# Altium footprint library Transistor-Fotprint.PcbLib: 28 footprints (part 1 of 2)
Each footprint in its own frame and in the unit in brackets; x right, y up, seen from the top. Pads: shape width x height; smd on the part's side, far side on the other; paste and mask are expansions set on the pad; w line width, h text height; cw(c..) or ccw(c..) is an arc to the next point about the centre after c.
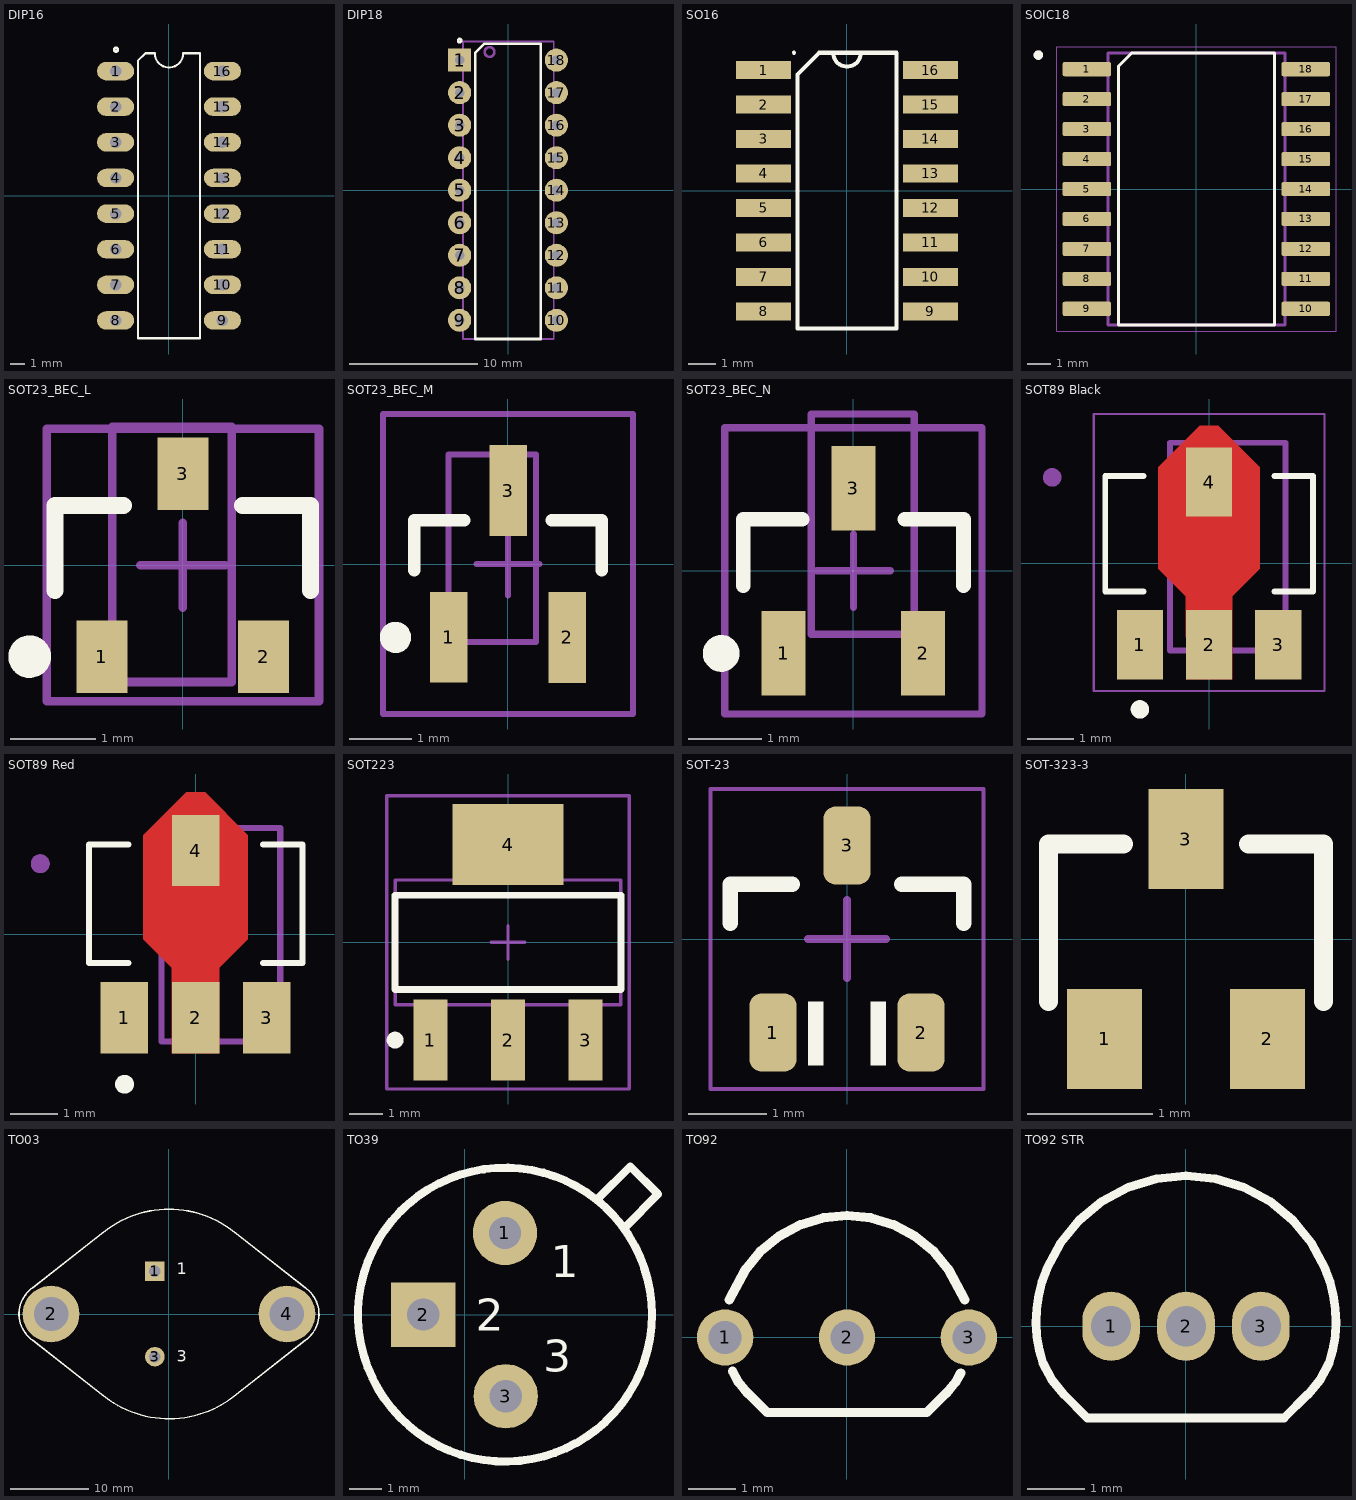
[diagram p0: the footprints below, top view; thin cyan lines are the x and y axes]

## DIP16 [mil]
pads (16):
  oval 104x52 hole 32: 1(-150,350) 2(-150,250) 3(-150,150) 4(-150,50) 5(-150,-50) 6(-150,-150) 7(-150,-250) 8(-150,-350) 9(150,-350) 10(150,-250) 11(150,-150) 12(150,-50) 13(150,50) 14(150,150) 15(150,250) 16(150,350)
Top Overlay:
  circle w7.87: c-148.66,410 r5
  lines w5.98: -87.5,-398.71 -87.5,378.58 -66.08,400 -40,400 ccw(c0,400) 40,400 87.5,400 ; -86.21,-400 87.5,-400 ; 87.5,-398.71 87.5,398.43
3D body "CircuitWorks-DIP16.step": height 165, standoff -101, extent -155,-425 155,425

## DIP18 [mm]
pads (18):
  rect 1.8x1.8 hole 0.72: 1(-3.776,10.16)
  round 1.8 hole 0.72: 2(-3.776,7.62) 3(-3.776,5.08) 4(-3.776,2.54) 5(-3.776,0) 6(-3.776,-2.54) 7(-3.776,-5.08) 8(-3.776,-7.62) 9(-3.776,-10.16) 10(3.776,-10.16) 11(3.776,-7.62) 12(3.776,-5.08) 13(3.776,-2.54) 14(3.776,0) 15(3.776,2.54) 16(3.776,5.08) 17(3.776,7.62) 18(3.776,10.16)
Top Overlay:
  circle w0.2: c-3.776,11.684 r0.127
  lines w0.2: 2.574,-11.62 -2.569,-11.62 -2.569,10.731 -1.871,11.43 2.574,11.43 2.574,-11.557
Mechanical 13:
  circle w0.2: c-1.441,10.795 r0.381
  lines w0.127: -3.516,-11.62 3.584,-11.62 3.584,11.62 -3.516,11.62 -3.516,-11.62
3D body "User Library-DIP-18P-M02.step": height 5.25, standoff -2.75, extent -3.901,-11 3.969,11

## SO16 [mil]
pads (16):
  rect 80x26 smd: 1(-121,175) 2(-121,125) 3(-121,75) 4(-121,25) 5(-121,-25) 6(-121,-75) 7(-121,-125) 8(-121,-175) 9(121,-175) 10(121,-125) 11(121,-75) 12(121,-25) 13(121,25) 14(121,75) 15(121,125) 16(121,175)
Top Overlay:
  lines w5.98: -72,-200 72,-200 ; -72,163.5 -72,168.5 -40.5,200 72,200
  lines w6: -72,-200 -72,163.5 ; -20,200 ccw(c0,200) 20,200 ; 72,-200 72,200 ; -77,200 ccw(c-77,200) -77,200
3D body "CircuitWorks-SO-16.step": height 57, standoff 0, extent -125,-196.5 107.49,196.5

## SOIC18 [mm]
pads (18):
  rrect25% 2.06x0.6 smd: 1(-4.64,5.08) 2(-4.64,3.81) 3(-4.64,2.54) 4(-4.64,1.27) 5(-4.64,0) 6(-4.64,-1.27) 7(-4.64,-2.54) 8(-4.64,-3.81) 9(-4.64,-5.08) 10(4.64,-5.08) 11(4.64,-3.81) 12(4.64,-2.54) 13(4.64,-1.27) 14(4.64,0) 15(4.64,1.27) 16(4.64,2.54) 17(4.64,3.81) 18(4.64,5.08)
Top Overlay:
  circle w0.2: c-6.7,5.68 r0.1
  lines w0.127: 3.302,-5.775 -3.302,-5.775 -3.302,5.207 -2.734,5.775 3.302,5.775 3.302,-5.715
Mechanical 13:
  circle w0.2: c-6.7,5.68 r0.1
  lines w0.127: -3.75,-5.775 3.75,-5.775 3.75,5.775 -3.75,5.775 -3.75,-5.775
Mechanical 15:
  lines w0.05: -5.92,-6.025 5.92,-6.025 5.92,6.025 -5.92,6.025 -5.92,-6.025
3D body "User Library-SOIC-18-300.STEP": height 2.57, standoff -0.03, extent -5.334,-5.908 5.266,5.842

## SOT23_BEC_L [mm] "SOT23, 3-Leads, Body 2.9x1.3mm, Pitch 0.95mm, Lead Span 2.4mm, IPC High Density"
height 1.14
pads (3):
  rect 0.6x0.85 smd: 1(-0.95,-1.075) 2(0.95,-1.075) 3(0,1.075)
Top Overlay:
  circle w0.25: c-1.8,-1.075 r0.125
  lines w0.2: -1.5,-0.3 -1.5,0.7 -0.7,0.7 ; 0.7,0.7 1.5,0.7 1.5,-0.3
Mechanical 13:
  lines w0.1: -0.827,-1.373 0.573,-1.373 0.573,1.627 -0.827,1.627 -0.827,-1.373
Mechanical 15:
  lines w0.1: -0.5,0 0.5,0 ; 0,-0.5 0,0.5 ; -1.6,-1.6 -1.6,1.6 1.6,1.6 1.6,-1.6 -1.6,-1.6
3D body "User Library-N-MOS_BSS123_SOT23.STEP": height 1, standoff 0, extent -1.441,-1.185 1.459,1.115

## SOT23_BEC_M [mm] "SOT23, 3-Leads, Body 2.9x1.3mm, Pitch 0.95mm, Lead Span 2.4mm, IPC Low Density"
height 1.14
pads (3):
  rect 0.6x1.45 smd: 1(-0.95,-1.175) 2(0.95,-1.175) 3(0,1.175)
Top Overlay:
  circle w0.25: c-1.8,-1.175 r0.125
  lines w0.2: -1.5,-0.1 -1.5,0.7 -0.7,0.7 ; 0.7,0.7 1.5,0.7 1.5,-0.1
Mechanical 13:
  lines w0.1: -0.954,-1.246 -0.954,1.754 0.446,1.754 0.446,-1.246 -0.954,-1.246
Mechanical 15:
  lines w0.1: -0.5,0 0.5,0 ; 0,-0.5 0,0.5 ; -2,-2.4 2,-2.4 2,2.4 -2,2.4 -2,-2.4
3D body "User Library-N-MOS_BSS123_SOT23.STEP": height 1, standoff 0, extent -1.423,-1.286 1.477,1.014

## SOT23_BEC_N [mm] "SOT23, 3-Leads, Body 2.9x1.3mm, Pitch 0.95mm, Lead Span 2.4mm, IPC Medium Density"
height 1.14
pads (3):
  rect 0.6x1.15 smd: 1(-0.95,-1.125) 2(0.95,-1.125) 3(0,1.125)
Top Overlay:
  circle w0.25: c-1.8,-1.125 r0.125
  lines w0.2: -1.5,-0.2 -1.5,0.7 -0.7,0.7 ; 0.7,0.7 1.5,0.7 1.5,-0.2
Mechanical 13:
  lines w0.1: -0.573,-0.865 -0.573,2.135 0.827,2.135 0.827,-0.865 -0.573,-0.865
Mechanical 15:
  lines w0.1: -0.5,0 0.5,0 ; 0,-0.5 0,0.5 ; -1.75,-1.95 1.75,-1.95 1.75,1.95 -1.75,1.95 -1.75,-1.95
3D body "User Library-N-MOS_BSS123_SOT23.STEP": height 1, standoff 0, extent -1.43,-1.202 1.47,1.098

## SOT89 Black [mm]
pads (4):
  rect 1x1.5 smd mask+0: 1(-1.5,-1.762) 3(1.5,-1.762)
  rect 1x1.5 smd paste-2 mask+0: 2(0,-1.762) 4(0,1.762)
Top Layer:
  region: -0.2,2.988 0.2,2.988 1.1,2.088 1.1,-0.112 0.5,-0.712 0.5,-2.512 -0.5,-2.512 -0.5,-0.712 -1.1,-0.112 -1.1,2.088
Top Overlay:
  circle w0.2: c-1.5,-3.162 r0.1
  lines w0.127: -1.42,-0.607 -2.25,-0.607 -2.25,1.893 -1.42,1.893 ; 1.42,-0.607 2.25,-0.607 2.25,1.893 1.42,1.893
Top Solder:
  region: -0.235,3.058 0.235,3.058 1.17,2.123 1.17,-0.147 0.57,-0.747 0.57,-2.582 -0.57,-2.582 -0.57,-0.747 -1.17,-0.147 -1.17,2.123
  region: 2.07,-0.942 2.07,-2.582 0.93,-2.582 0.93,-0.942
  region: -0.93,-0.942 -0.93,-2.582 -2.07,-2.582 -2.07,-0.942
Mechanical 13:
  circle w0.2: c-3.4,1.865 r0.1
  lines w0.127: -0.845,-1.885 1.655,-1.885 1.655,2.615 -0.845,2.615 -0.845,-1.885
Mechanical 15:
  lines w0.05: -2.5,-2.762 -2.5,3.238 2.5,3.238 2.5,-2.762 -2.5,-2.762
3D body "CircuitWorks-SOT-89.step": height 1.5, standoff 0, extent -2.25,-2.25 2.25,1.75

## SOT89 Red [mm]
pads (4):
  rect 1x1.5 smd mask+0: 1(-1.5,-1.762) 3(1.5,-1.762)
  rect 1x1.5 smd paste-2 mask+0: 2(0,-1.762) 4(0,1.762)
Top Layer:
  region: -0.2,2.988 0.2,2.988 1.1,2.088 1.1,-0.112 0.5,-0.712 0.5,-2.512 -0.5,-2.512 -0.5,-0.712 -1.1,-0.112 -1.1,2.088
Top Overlay:
  circle w0.2: c-1.5,-3.162 r0.1
  lines w0.127: -1.42,-0.607 -2.25,-0.607 -2.25,1.893 -1.42,1.893 ; 1.42,-0.607 2.25,-0.607 2.25,1.893 1.42,1.893
Top Solder:
  region: -0.93,-0.942 -0.93,-2.582 -2.07,-2.582 -2.07,-0.942
  region: 2.07,-0.942 2.07,-2.582 0.93,-2.582 0.93,-0.942
  region: -0.235,3.058 0.235,3.058 1.17,2.123 1.17,-0.147 0.57,-0.747 0.57,-2.582 -0.57,-2.582 -0.57,-0.747 -1.17,-0.147 -1.17,2.123
Mechanical 13:
  circle w0.2: c-3.273,1.484 r0.1
  lines w0.127: -0.718,-2.266 -0.718,2.234 1.782,2.234 1.782,-2.266 -0.718,-2.266
3D body "CircuitWorks-SOT89.step": height 1.58, standoff 0.08, extent -2.214,-2.254 2.286,1.746

## SOT223 [mm]
pads (4):
  rect 1x2.4 smd: 1(-2.3,-2.9) 2(0,-2.9) 3(2.3,-2.9)
  rect 3.3x2.4 smd: 4(0,2.9)
Top Overlay:
  circle w0.25: c-3.35,-2.9 r0.125
  lines w0.2: -3.35,-1.4 -3.35,1.4 3.35,1.4 3.35,-1.4 -3.35,-1.4
Mechanical 13:
  lines w0.1: -3.35,-1.85 -3.35,1.85 3.35,1.85 3.35,-1.85 -3.35,-1.85
Mechanical 15:
  lines w0.1: -0.5,0 0.5,0 ; 0,-0.5 0,0.5 ; -3.6,-4.35 -3.6,4.35 3.6,4.35 3.6,-4.35 -3.6,-4.35
3D body "CircuitWorks-SOT-223.SLDPRT": height 1.66, standoff -0.02, extent -3.25,-3.48 3.25,3.48

## SOT-23 [mm] "SOT23, 3-Leads, Body 2.9x1.3mm, Pitch 0.95mm, Lead Span 2.5mm, IPC Medium Density"
height 1.1
pads (3):
  rrect50% 0.6x1 smd: 1(-0.95,-1.2) 2(0.95,-1.2) 3(0,1.2)
Top Overlay:
  region: -0.301,-1.625 -0.301,-0.8 -0.501,-0.8 -0.501,-1.625
  region: 0.501,-1.625 0.501,-0.8 0.301,-0.8 0.301,-1.625
  lines w0.2: -1.5,0.2 -1.5,0.7 -0.7,0.7 ; 0.7,0.7 1.5,0.7 1.5,0.2
Mechanical 15:
  lines w0.05: -1.75,-1.925 1.75,-1.925 1.75,1.925 -1.75,1.925 -1.75,-1.925
  lines w0.1: -0.5,0 0.5,0 ; 0,-0.5 0,0.5
3D body "SW3dPS-sot-3p290x130ll237h100.STEP": height 1, standoff 0, extent -1.45,-1.185 1.45,1.185

## SOT-323-3 [mm]
height 1.1
pads (3):
  rect 0.6x0.8 smd: 1(-0.65,-0.8) 2(0.65,-0.8) 3(0,0.8)
Top Overlay:
  lines w0.15: -1.1,-0.5 -1.1,0.76 -0.5,0.76 ; 0.5,0.76 1.1,0.76 1.1,-0.5
3D body "SC-70.stp": height 1.13, standoff 0.02, extent -1.125,-1.125 1.125,1.125

## TO03 [mm]
pads (4):
  rect 2.5x2.5 hole 1.5: 1(-1.815,5.46)
  round 7.25 hole 4.4: 2(-15.075,0) 4(15.075,0)
  round 2.5 hole 1.5: 3(-1.815,-5.46)
Top Overlay:
  lines w0.2: -17.427,-3.359 -8.299,-10.521 ; -17.427,-3.358 cw(c-15.075,0) -17.427,3.359 -8.299,10.521 ; -8.613,-10.265 ccw(c0,0) 8.298,-10.521 17.427,-3.359 ; -8.613,10.265 cw(c0,0) 8.613,10.265 ; 8.299,10.521 17.427,3.359 ; 17.308,3.439 cw(c15.075,0) 17.427,-3.358
  text "3" at 1.016,-6.096 h1.5
  text "1" at 1.016,5.08 h1.5
3D body "TO-03.STEP": height 9.15, standoff -2.75, extent -19.632,-12.981 19.65,12.981

## TO39 [mm] "NPN Transistor"
pads (3):
  round 2 hole 1: 1(1.257,2.54) 3(1.283,-2.54)
  rect 2x2 hole 1: 2(-1.283,0)
Top Overlay:
  circle w0.254: c1.257,0 r4.572
  lines w0.254: 4.14,3.594 5.156,4.61 6.02,3.746 5.004,2.73
  text "1" at 2.68,1.168 h1
  text "2" at 0.343,-0.508 h1
  text "3" at 2.451,-1.778 h1
3D body "User Library-TO-39_TO-205AD.step": height 6.98, standoff -11.44, extent -3.443,-4.7 5.957,4.691

## TO92 [mm]
height 8
pads (3):
  round 1.2 hole 0.7: 1(-2.6,0) 2(0,0) 3(2.6,0)
Top Overlay:
  lines w0.2: -2.512,0.806 -2.173,1.441 -1.848,1.837 -1.452,2.162 -1,2.403 -0.51,2.552 0,2.602 0.51,2.552 1,2.403 1.452,2.162 1.848,1.837 2.173,1.441 2.512,0.806 ; -2.443,-0.723 -2.326,-0.941 -2.118,-1.195 -2.112,-1.189 -1.7,-1.601 1.7,-1.601 2.112,-1.189 2.118,-1.195 2.326,-0.941 2.424,-0.759
3D body "User Library-TO-92_Bent.STEP": height 10, standoff -3, extent -2.79,-1.59 2.79,2.613

## TO92 STR [mm]
height 7
pads (3):
  oval 1x1.2 hole 0.7 mask+0.06: 1(-1.3,0) 2(0,0) 3(1.3,0)
Top Overlay:
  lines w0.15: -2.481,-0.642 cw(c-0.325,0.092) -2.414,0.999 -2.173,1.45 -1.848,1.846 -1.452,2.171 -1,2.413 -0.51,2.562 0,2.612 0.51,2.562 1,2.413 1.452,2.171 1.848,1.846 2.173,1.45 2.414,0.999 cw(c0.325,0.092) 2.481,-0.642 2.326,-0.931 2.118,-1.185 2.112,-1.18 1.7,-1.592 -1.712,-1.592 -2.118,-1.185 -2.326,-0.931 -2.481,-0.642
3D body "User Library-TO-92_Str.STEP": height 10, standoff -3, extent -2.613,-1.591 2.613,2.613